# Altium schematic symbol library LL4148_L1G.SchLib: 1 symbol
Pins are listed as number, name and electrical type; pins without a type are passive.

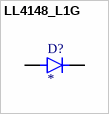
[diagram p0: symbol LL4148_L1G]

## LL4148_L1G
designator D?
MP: LL4148_L1G; Price: None; Package: None; Availability: Unavailable; Value: *
footprint DIOMELF3515N
pins: A, C K